# Altium footprint library ARBOR.PcbLib: 21 footprints (part 2 of 2)
Each footprint in its own frame and in the unit in brackets; x right, y up, seen from the top. Pads: shape width x height; smd on the part's side, far side on the other; paste and mask are expansions set on the pad; w line width, h text height; cw(c..) or ccw(c..) is an arc to the next point about the centre after c.
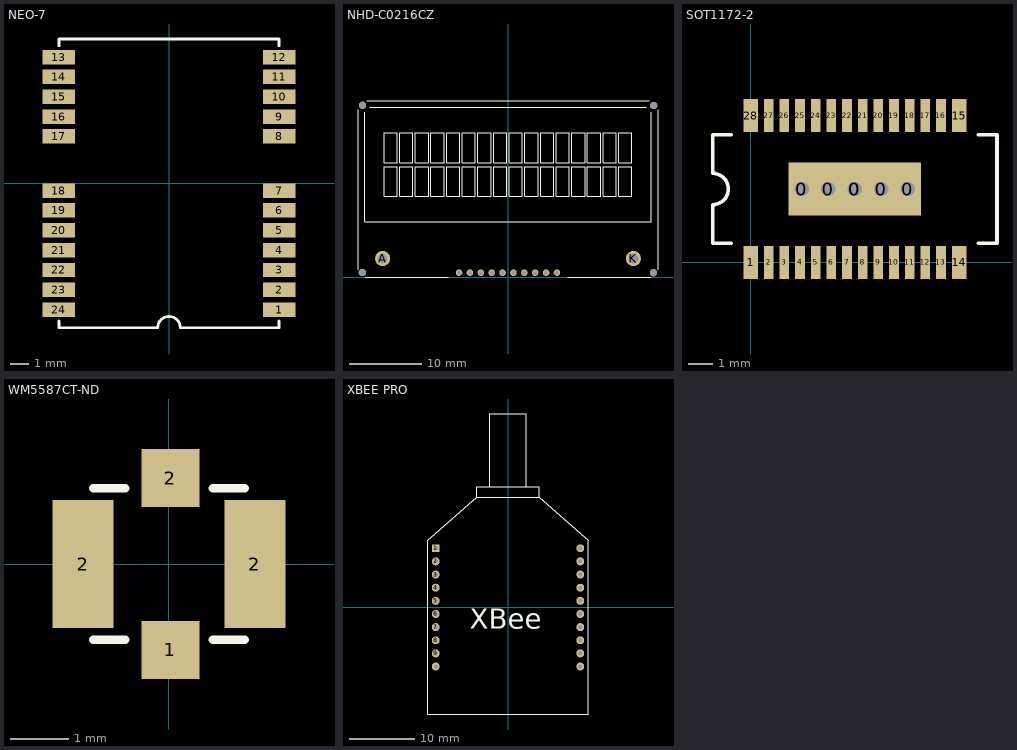
[diagram p1: the footprints below, top view; thin cyan lines are the x and y axes]

## NEO-7 [mm] "GPS/GNSS NEO-7N MODULE"
pads (24):
  rect 1.8x0.8 smd: 1(6.1,-7) 2(6.1,-5.9) 3(6.1,-4.8) 4(6.1,-3.7) 5(6.1,-2.6) 6(6.1,-1.5) 7(6.1,-0.4) 8(6.1,2.6) 9(6.1,3.7) 10(6.1,4.8) 11(6.1,5.9) 12(6.1,7) 13(-6.1,7) 14(-6.1,5.9) 15(-6.1,4.8) 16(-6.1,3.7) 17(-6.1,2.6) 18(-6.1,-0.4) 19(-6.1,-1.5) 20(-6.1,-2.6) 21(-6.1,-3.7) 22(-6.1,-4.8) 23(-6.1,-5.9) 24(-6.1,-7)
Top Overlay:
  lines w0.152: -6.1,-7.625 -6.1,-8 -0.625,-8 cw(c0,-8) 0.625,-8 6.1,-8 6.1,-7.625 ; -6.1,7.625 -6.1,8 6.1,8 6.1,7.625

## NHD-C0216CZ [mm] "COG 2 line x 16 charater LCD Display"
height 4
pads (16):
  round 0.9 hole 0.6: 1(6.75,0.6) 2(5.25,0.6) 3(3.75,0.6) 4(2.25,0.6) 5(0.75,0.6) 6(-0.75,0.6) 7(-2.25,0.6) 8(-3.75,0.6) 9(-5.25,0.6) 10(-6.75,0.6)
  round 2.1 hole 1.4: A(-17.3,2.55) K(17.3,2.55)
  round 1 hole 1 unplated: ""(-20.1,0.635) ""(-20.065,23.7) ""(20.065,0.6) ""(20.1,23.665)
Top Overlay:
  lines w0.152: -20.7,1.015 -20.7,23.115 ; -19.8,22.745 -19.8,7.6 0,7.6 19.8,7.6 19.8,22.745 ; -19.685,0 -8.255,0 ; -19.515,24.3 0,24.3 19.515,24.3 ; -19.05,23.4 19.05,23.4 ; 8.255,0 19.685,0 ; 20.7,1.015 20.7,23.115 ; -17.11,11.12 -17.11,15.25 -15.29,15.25 -15.29,11.12 -17.11,11.12 ; -17.11,15.75 -15.29,15.75 -15.29,19.88 -17.11,19.88 -17.11,15.75 ; -14.95,11.12 -14.95,15.25 -13.13,15.25 -13.13,11.12 -14.95,11.12 ; -14.95,15.75 -13.13,15.75 -13.13,19.88 -14.95,19.88 -14.95,15.75 ; -12.79,11.12 -12.79,15.25 -10.97,15.25 -10.97,11.12 -12.79,11.12 ; -12.79,15.75 -10.97,15.75 -10.97,19.88 -12.79,19.88 -12.79,15.75 ; -10.63,11.12 -10.63,15.25 -8.81,15.25 -8.81,11.12 -10.63,11.12 ; -10.63,15.75 -8.81,15.75 -8.81,19.88 -10.63,19.88 -10.63,15.75 ; -8.47,11.12 -8.47,15.25 -6.65,15.25 -6.65,11.12 -8.47,11.12 ; -8.47,15.75 -6.65,15.75 -6.65,19.88 -8.47,19.88 -8.47,15.75 ; -6.31,11.12 -6.31,15.25 -4.49,15.25 -4.49,11.12 -6.31,11.12 ; -6.31,15.75 -4.49,15.75 -4.49,19.88 -6.31,19.88 -6.31,15.75 ; -4.15,11.12 -2.33,11.12 -2.33,15.25 -4.15,15.25 -4.15,11.12 ; -4.15,15.75 -4.15,19.88 -2.33,19.88 -2.33,15.75 -4.15,15.75 ; -1.99,11.12 -1.99,15.25 -0.17,15.25 -0.17,11.12 -1.99,11.12 ; -1.99,15.75 -0.17,15.75 -0.17,19.88 -1.99,19.88 -1.99,15.75 ; 0.17,11.12 1.99,11.12 1.99,15.25 0.17,15.25 0.17,11.12 ; 0.17,15.75 0.17,19.88 1.99,19.88 1.99,15.75 0.17,15.75 ; 2.33,11.12 2.33,15.25 4.15,15.25 4.15,11.12 2.33,11.12 ; 2.33,15.75 4.15,15.75 4.15,19.88 2.33,19.88 2.33,15.75 ; 4.49,11.12 6.31,11.12 6.31,15.25 4.49,15.25 4.49,11.12 ; 4.49,15.75 4.49,19.88 6.31,19.88 6.31,15.75 4.49,15.75 ; 6.65,11.12 8.47,11.12 8.47,15.25 6.65,15.25 6.65,11.12 ; 6.65,15.75 6.65,19.88 8.47,19.88 8.47,15.75 6.65,15.75 ; 8.81,11.12 10.63,11.12 10.63,15.25 8.81,15.25 8.81,11.12 ; 8.81,15.75 8.81,19.88 10.63,19.88 10.63,15.75 8.81,15.75 ; 10.97,11.12 12.79,11.12 12.79,15.25 10.97,15.25 10.97,11.12 ; 10.97,15.75 10.97,19.88 12.79,19.88 12.79,15.75 10.97,15.75 ; 13.13,11.12 14.95,11.12 14.95,15.25 13.13,15.25 13.13,11.12 ; 13.13,15.75 13.13,19.88 14.95,19.88 14.95,15.75 13.13,15.75 ; 15.29,11.12 17.11,11.12 17.11,15.25 15.29,15.25 15.29,11.12 ; 15.29,15.75 15.29,19.88 17.11,19.88 17.11,15.75 15.29,15.75
3D body: height 4, standoff 0, extent -20.1,0.6 20.1,23.7

## SOT1172-2 [mm] "HTSSOP28"
height 1.1
pads (34):
  round 1 hole 0.6: 0(2.125,3.05) 0(3.225,3.05) 0(4.325,3.05) 0(5.425,3.05) 0(6.525,3.05)
  rect 5.5x2.2 smd: 0(4.325,3.05)
  rect 0.6x1.35 smd: 1(0,0) 14(8.65,0) 15(8.65,6.1) 28(0,6.1)
  rect 0.4x1.35 smd: 2(0.75,0) 3(1.4,0) 4(2.05,0) 5(2.7,0) 6(3.35,0) 7(4,0) 8(4.65,0) 9(5.3,0) 10(5.95,0) 11(6.6,0) 12(7.25,0) 13(7.9,0) 16(7.9,6.1) 17(7.25,6.1) 18(6.6,6.1) 19(5.95,6.1) 20(5.3,6.1) 21(4.65,6.1) 22(4,6.1) 23(3.35,6.1) 24(2.7,6.1) 25(2.05,6.1) 26(1.4,6.1) 27(0.75,6.1)
Top Overlay:
  lines w0.152: -0.8,0.8 -1.575,0.8 -1.575,2.4 ccw(c-1.575,3.05) -1.575,3.7 -1.575,5.3 -0.8,5.3 ; 9.45,0.8 10.225,0.8 10.225,5.3 9.45,5.3

## WM5587CT-ND [mm] "MOLEX COAXIAL CONNECTOR VERTICAL EWR-4537"
height 0.033
pads (4):
  rect 1x1 smd: 1(0.025,-1.475) 2(0.025,1.475)
  rect 1.05x2.2 smd: 2(-1.475,0) 2(1.475,0)
Top Overlay:
  lines w0.152: -1.3,-1.3 -0.75,-1.3 ; -1.3,1.3 -0.75,1.3 ; 0.75,-1.3 1.3,-1.3 ; 0.75,1.3 1.3,1.3

## XBEE PRO [mm] "XBEE WIFI"
height 2.03
pads (20):
  rect 1.2x1.2 hole 0.7: 1(-11,9)
  round 1.2 hole 0.7: 2(-11,7) 3(-11,5) 4(-11,3) 5(-11,1) 6(-11,-1) 7(-11,-3) 8(-11,-5) 9(-11,-7) 10(-11,-9) 11(11,-9) 12(11,-7) 13(11,-5) 14(11,-3) 15(11,-1) 16(11,1) 17(11,3) 18(11,5) 19(11,7) 20(11,9)
Top Overlay:
  lines w0.152: -2.81,18.373 -2.81,29.422 0,29.422 2.81,29.422 2.81,18.373 ; -4.763,16.722 -4.763,18.373 4.763,18.373 4.763,16.722 ; -4.763,16.722 -12.19,10.192 -12.19,-16.218 0,-16.218 12.19,-16.218 12.19,10.192 4.763,16.722 ; -4.763,16.722 0,16.722 4.763,16.722
  text "XBee" at -5.825,-3.243 h3.05